# Altium footprint library Copy of elements_pcb.PcbLib: 2 footprints
Each footprint in its own frame and in the unit in brackets; x right, y up, seen from the top. Pads: shape width x height; smd on the part's side, far side on the other; paste and mask are expansions set on the pad; w line width, h text height; cw(c..) or ccw(c..) is an arc to the next point about the centre after c.
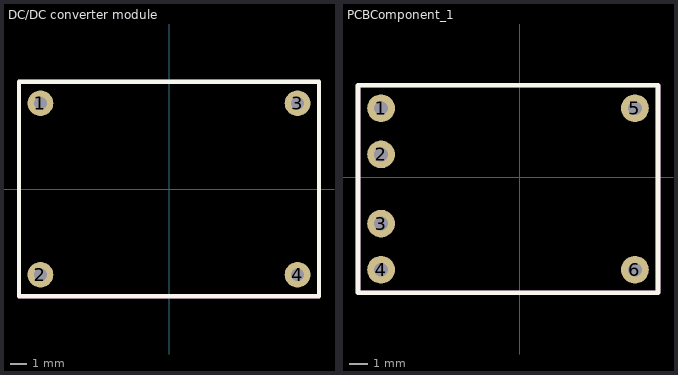
[diagram p0: the footprints below, top view; thin cyan lines are the x and y axes]

## DC/DC converter module [mil]
pads (4):
  round 60 hole 30: 1(-300,200) 2(-300,-200) 3(300,200) 4(300,-200)
Top Overlay:
  lines w10: -350,-250 -350,250 350,250 350,-250 -350,-250
Keep-Out Layer:
  lines w10: -350,-250 -350,250 350,250 350,-250 -350,-250

## PCBComponent_1 [mil]
pads (6):
  round 60 hole 30: 1(-300,150) 2(-300,50) 3(-300,-100) 4(-300,-200) 5(250,150) 6(250,-200)
Top Overlay:
  lines w10: -350,-250 -350,200 300,200 300,-250 -350,-250
Keep-Out Layer:
  lines w10: -350,-250 -350,200 300,200 300,-250 -350,-250